# Altium footprint library jst.PcbLib: 39 footprints (part 1 of 3)
Each footprint in its own frame and in the unit in brackets; x right, y up, seen from the top. Pads: shape width x height; smd on the part's side, far side on the other; paste and mask are expansions set on the pad; w line width, h text height; cw(c..) or ccw(c..) is an arc to the next point about the centre after c.
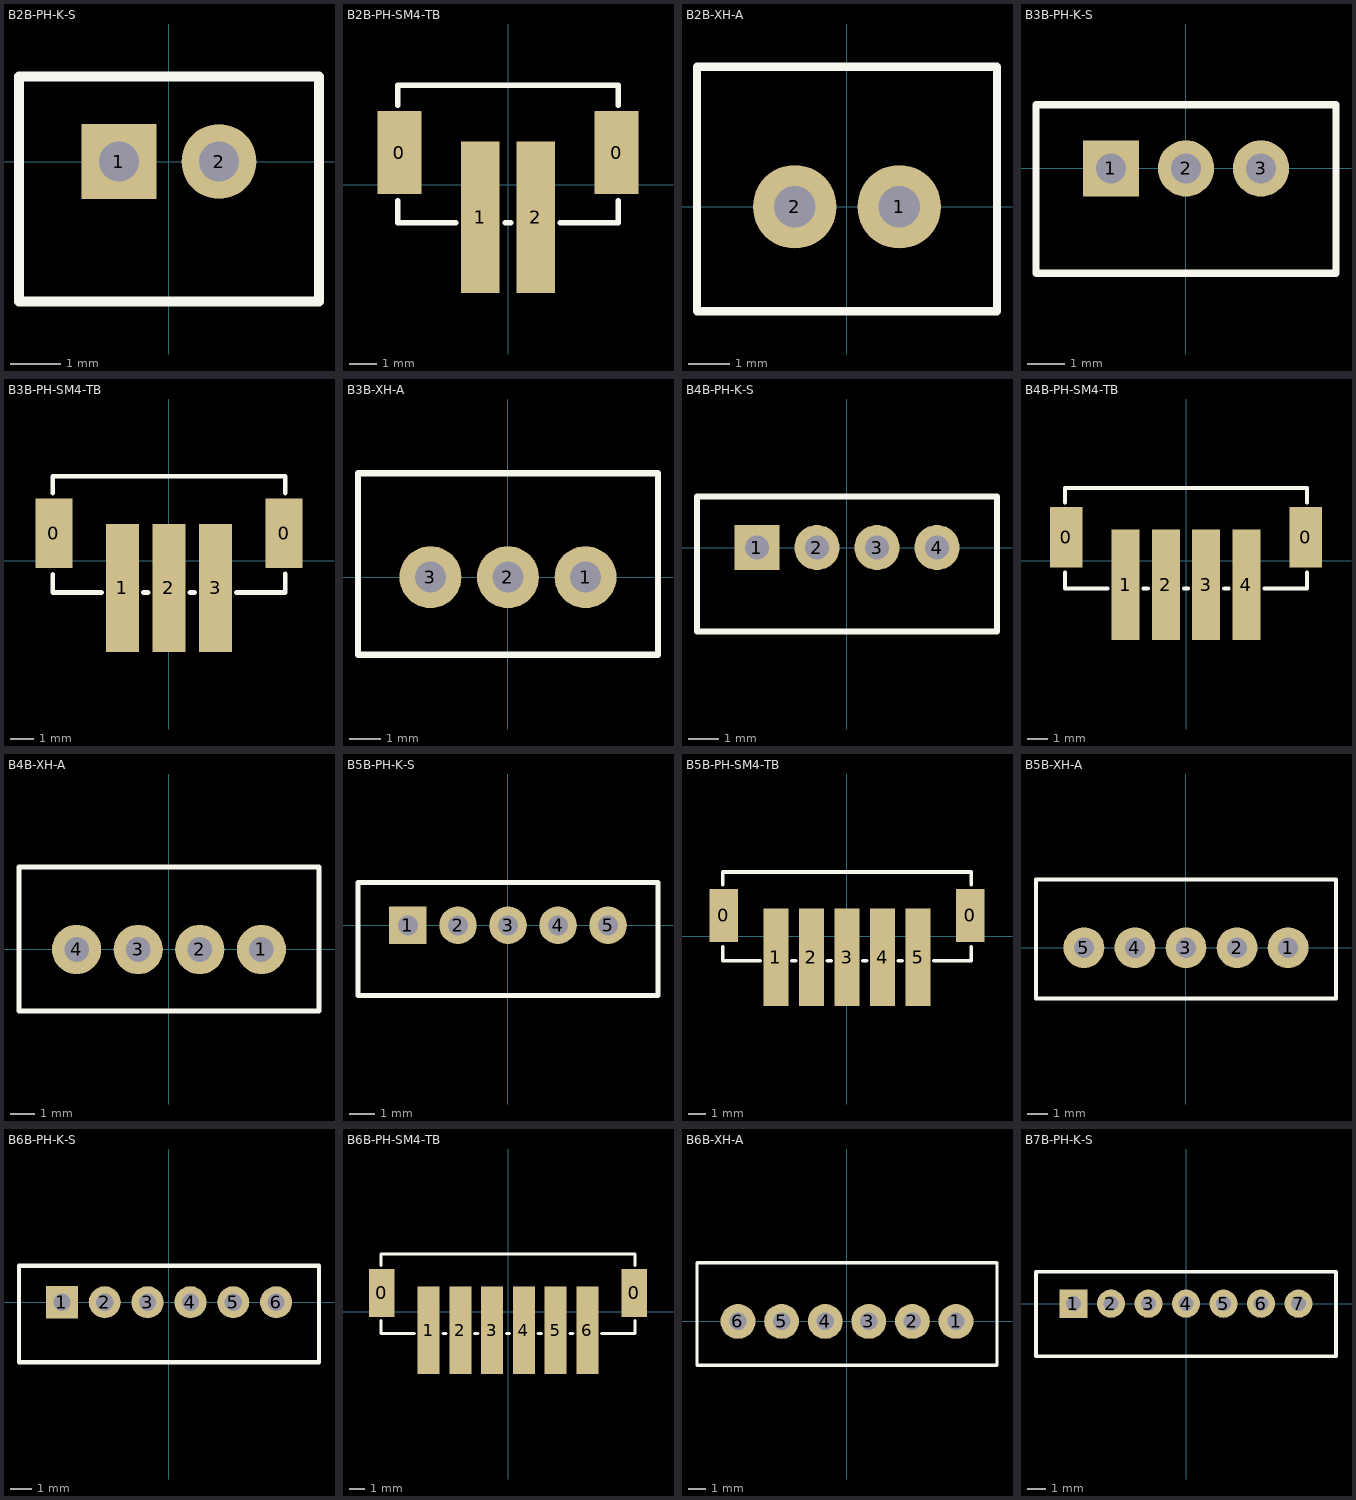
[diagram p0: the footprints below, top view; thin cyan lines are the x and y axes]

## B2B-PH-K-S [mm]
pads (2):
  rect 1.5x1.5 hole 0.8: 1(-1,0)
  round 1.5 hole 0.8: 2(1,0)
Top Overlay:
  lines w0.2: -3,-2.8 -3,1.7 3,1.7 3,-2.8 -3,-2.8
3D body "B2B-PH-K-S.STEP": height 6, standoff -3.4, extent -2.95,-2.8 2.95,1.7

## B2B-PH-SM4-TB [mm]
pads (4):
  rect 1.6x3 smd: 0(-3.95,1.175) 0(3.95,1.175)
  rect 1.4x5.5 smd: 1(-1,-1.175) 2(1,-1.175)
Top Overlay:
  lines w0.2: -4,-0.575 -4,-1.375 -1.9,-1.375 ; -4,2.9 -4,3.625 4,3.625 4,2.9 ; -0.1,-1.375 0.1,-1.375 ; 1.9,-1.375 4,-1.375 4,-0.575
3D body "B2B-PH-SM4-TB.STEP": height 6.6, standoff 0, extent -4,-3.375 3.95,3.625

## B2B-XH-A [mm]
pads (2):
  round 2 hole 1: 1(1.25,0) 2(-1.25,0)
Top Overlay:
  lines w0.2: -3.587,-2.5 3.587,-2.5 3.587,3.35 -3.587,3.35 -3.587,-2.5
3D body "JST - XH - Thru - 2Pin - 2.5mm (Genuine).stp": height 7.21, standoff -3, extent -3.587,-2.489 3.587,3.353

## B3B-PH-K-S [mm]
pads (3):
  rect 1.5x1.5 hole 0.8: 1(-2,0)
  round 1.5 hole 0.8: 2(0,0) 3(2,0)
Top Overlay:
  lines w0.2: -4,-2.8 -4,1.7 4,1.7 4,-2.8 -4,-2.8
3D body "B3B-PH-K-S.STEP": height 6, standoff -3.4, extent -3.95,-2.8 3.95,1.7

## B3B-PH-SM4-TB [mm]
pads (5):
  rect 1.6x3 smd: 0(-4.95,1.175) 0(4.95,1.175)
  rect 1.4x5.5 smd: 1(-2,-1.175) 2(0,-1.175) 3(2,-1.175)
Top Overlay:
  lines w0.2: -5,-0.6 -5,-1.375 -2.9,-1.375 ; -5,2.9 -5,3.625 5,3.625 5,2.9 ; -1.1,-1.375 -0.9,-1.375 ; 0.9,-1.375 1.1,-1.375 ; 2.9,-1.375 5,-1.375 5,-0.575
3D body "B3B-PH-SM4-TB.STEP": height 6.6, standoff 0, extent -5,-3.35 4.95,3.65

## B3B-XH-A [mm]
pads (3):
  round 2 hole 1: 1(2.5,0) 2(0,0) 3(-2.5,0)
Top Overlay:
  lines w0.2: -4.837,-2.5 4.837,-2.5 4.837,3.35 -4.837,3.35 -4.837,-2.5
3D body "JST - XH - Thru - 3Pin - 2.5mm (Genuine).stp": height 7.21, standoff -3, extent -4.837,-2.489 4.837,3.353

## B4B-PH-K-S [mm]
pads (4):
  rect 1.5x1.5 hole 0.8: 1(-3,0)
  round 1.5 hole 0.8: 2(-1,0) 3(1,0) 4(3,0)
Top Overlay:
  lines w0.2: -5,-2.8 -5,1.7 5,1.7 5,-2.8 -5,-2.8
3D body "B4B-PH-K-S.STEP": height 6, standoff -3.4, extent -4.95,-2.8 4.95,1.7

## B4B-PH-SM4-TB [mm]
pads (6):
  rect 1.6x3 smd: 0(-5.95,1.175) 0(5.95,1.175)
  rect 1.4x5.5 smd: 1(-3,-1.175) 2(-1,-1.175) 3(1,-1.175) 4(3,-1.175)
Top Overlay:
  lines w0.2: -6,-0.575 -6,-1.375 -3.9,-1.375 ; -6,2.9 -6,3.625 6,3.625 6,2.9 ; -2.1,-1.375 -1.9,-1.375 ; -0.1,-1.375 0.1,-1.375 ; 1.9,-1.375 2.1,-1.375 ; 3.9,-1.375 6,-1.375 6,-0.575
3D body "B4B-PH-SM4-TB.STEP": height 6.6, standoff 0, extent -5.975,-3.375 5.975,3.625

## B4B-XH-A [mm]
pads (4):
  round 2 hole 1: 1(3.75,0) 2(1.25,0) 3(-1.25,0) 4(-3.75,0)
Top Overlay:
  lines w0.2: -6.087,-2.5 6.087,-2.5 6.087,3.35 -6.087,3.35 -6.087,-2.5
3D body "JST - XH - Thru - 4Pin - 2.5mm (Genuine).stp": height 7.21, standoff -3, extent -6.087,-2.489 6.087,3.353

## B5B-PH-K-S [mm]
pads (5):
  rect 1.5x1.5 hole 0.8: 1(-4,0)
  round 1.5 hole 0.8: 2(-2,0) 3(0,0) 4(2,0) 5(4,0)
Top Overlay:
  lines w0.2: -6,-2.8 -6,1.7 6,1.7 6,-2.8 -6,-2.8
3D body "B5B-PH-K-S.STEP": height 6, standoff -3.4, extent -5.95,-2.8 5.95,1.7

## B5B-PH-SM4-TB [mm]
pads (7):
  rect 1.6x3 smd: 0(-6.95,1.175) 0(6.95,1.175)
  rect 1.4x5.5 smd: 1(-4,-1.175) 2(-2,-1.175) 3(0,-1.175) 4(2,-1.175) 5(4,-1.175)
Top Overlay:
  lines w0.2: -7,-0.575 -7,-1.375 -4.9,-1.375 ; -7,2.9 -7,3.625 7,3.625 7,2.9 ; -3.1,-1.375 -2.9,-1.375 ; -1.1,-1.375 -0.9,-1.375 ; 0.9,-1.375 1.1,-1.375 ; 2.9,-1.375 3.1,-1.375 ; 4.9,-1.375 7,-1.375 7,-0.575
3D body "B5B-PH-SM4-TB.STEP": height 6.6, standoff 0, extent -7,-3.35 6.95,3.65

## B5B-XH-A [mm]
pads (5):
  round 2 hole 1: 1(5,0) 2(2.5,0) 3(0,0) 4(-2.5,0) 5(-5,0)
Top Overlay:
  lines w0.2: -7.35,-2.5 -7.35,3.35 7.35,3.35 7.35,-2.5 -7.35,-2.5
3D body "JST - XH - Thru - 5Pin - 2.5mm (Genuine).stp": height 7.21, standoff -3, extent -7.337,-2.492 7.337,3.35

## B6B-PH-K-S [mm]
pads (6):
  rect 1.5x1.5 hole 0.8: 1(-5,0)
  round 1.5 hole 0.8: 2(-3,0) 3(-1,0) 4(1,0) 5(3,0) 6(5,0)
Top Overlay:
  lines w0.2: -7,-2.8 7,-2.8 7,1.7 -7,1.7 -7,-2.8
3D body "B6B-PH-K-S.STEP": height 6, standoff -3.4, extent -6.95,-2.8 6.95,1.7

## B6B-PH-SM4-TB [mm]
pads (8):
  rect 1.6x3 smd: 0(-7.95,1.175) 0(7.95,1.175)
  rect 1.4x5.5 smd: 1(-5,-1.175) 2(-3,-1.175) 3(-1,-1.175) 4(1,-1.175) 5(3,-1.175) 6(5,-1.175)
Top Overlay:
  lines w0.2: -8,-0.575 -8,-1.375 -5.9,-1.375 ; -8,2.9 -8,3.625 8,3.625 8,2.9 ; -4.1,-1.375 -3.9,-1.375 ; -2.1,-1.375 -1.9,-1.375 ; -0.1,-1.375 0.1,-1.375 ; 1.9,-1.375 2.1,-1.375 ; 3.9,-1.375 4.1,-1.375 ; 5.9,-1.375 8,-1.375 8,-0.575
3D body "B6B-PH-SM4-TB.STEP": height 6.6, standoff 0, extent -8,-3.375 7.95,3.625

## B6B-XH-A [mm]
pads (6):
  round 2 hole 1: 1(6.25,0) 2(3.75,0) 3(1.25,0) 4(-1.25,0) 5(-3.75,0) 6(-6.25,0)
Top Overlay:
  lines w0.2: -8.6,-2.5 8.6,-2.5 8.6,3.35 -8.6,3.35 -8.6,-2.5
3D body "JST - XH - Thru - 6Pin - 2.5mm (Genuine).stp": height 7.21, standoff -3, extent -8.587,-2.489 8.587,3.353

## B7B-PH-K-S [mm]
pads (7):
  rect 1.5x1.5 hole 0.8: 1(-6,0)
  round 1.5 hole 0.8: 2(-4,0) 3(-2,0) 4(0,0) 5(2,0) 6(4,0) 7(6,0)
Top Overlay:
  lines w0.2: -8,-2.8 8,-2.8 8,1.7 -8,1.7 -8,-2.8
3D body "B7B-PH-K-S.STEP": height 6, standoff -3.4, extent -7.95,-2.8 7.95,1.7